# EAGLE library part ESP32-PICO-MINI-02-N8R2 (library 2024-09-07_16-09-34_Library)
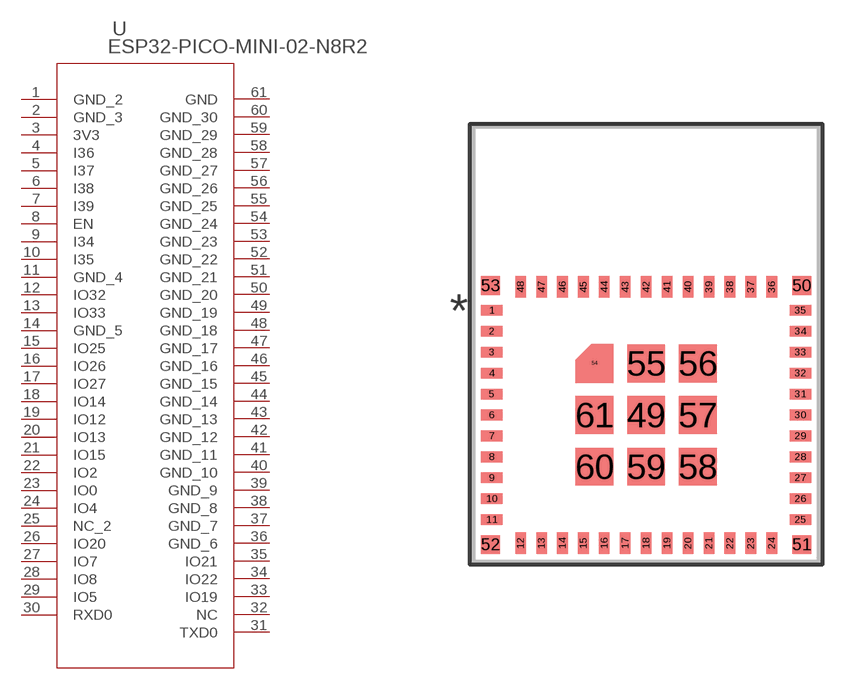
[diagram p0: symbol with the pads of ESP32-PICO-MINI-02_EXP; footprint ESP32-PICO-MINI-02_EXP]

Designator prefix U

## ESP32-PICO-MINI-02-N8R2ESP32-PICO-MINI-02_EXP (Copyright: Copyright (C) 2024 Ultra Librarian. All rights reserved.; Manufacturer_Part_Number: ESP32-PICO-MINI-02-N8R2; Mfr_Name: Espressif Systems)  [ESP32-PICO-MINI-02_EXP]
1  GND_2  pas
2  GND_3  pas
3  3V3  pwr
4  I36  in
5  I37  in
6  I38  in
7  I39  in
8  EN  in
9  I34  in
10  I35  in
11  GND_4  pas
12  IO32
13  IO33
14  GND_5  pas
15  IO25
16  IO26
17  IO27
18  IO14
19  IO12
20  IO13
21  IO15
22  IO2
23  IO0
24  IO4
25  NC_2  nc
26  IO20
27  IO7
28  IO8
29  IO5
30  RXD0
31  TXD0
32  NC  nc
33  IO19
34  IO22
35  IO21
36  GND_6  pas
37  GND_7  pas
38  GND_8  pas
39  GND_9  pas
40  GND_10  pas
41  GND_11  pas
42  GND_12  pas
43  GND_13  pas
44  GND_14  pas
45  GND_15  pas
46  GND_16  pas
47  GND_17  pas
48  GND_18  pas
49  GND_19  pas
50  GND_20  pas
51  GND_21  pas
52  GND_22  pas
53  GND_23  pas
54  GND_24  pas
55  GND_25  pas
56  GND_26  pas
57  GND_27  pas
58  GND_28  pas
59  GND_29  pas
60  GND_30  pas
61  GND  pas

## Footprint ESP32-PICO-MINI-02_EXP (pad centres in mm)
smd 0.813 x 0.406: 1 -5.9,1.295; 2 -5.9,0.495; 3 -5.9,-0.305; 4 -5.9,-1.105; 5 -5.9,-1.905; 6 -5.9,-2.705; 7 -5.9,-3.505; 8 -5.9,-4.305; 9 -5.9,-5.105; 10 -5.9,-5.905; 11 -5.9,-6.705; 25 5.9,-6.705; 26 5.9,-5.905; 27 5.9,-5.105; 28 5.9,-4.305; 29 5.9,-3.505; 30 5.9,-2.705; 31 5.9,-1.905; 32 5.9,-1.105; 33 5.9,-0.305; 34 5.9,0.495; 35 5.9,1.295
smd 0.406 x 0.813: 12 -4.8,-7.605; 13 -4,-7.605; 14 -3.2,-7.605; 15 -2.4,-7.605; 16 -1.6,-7.605; 17 -0.8,-7.605; 18 0,-7.605; 19 0.8,-7.605; 20 1.6,-7.605; 21 2.4,-7.605; 22 3.2,-7.605; 23 4,-7.605; 24 4.8,-7.605; 36 4.8,2.195; 37 4,2.195; 38 3.2,2.195; 39 2.4,2.195; 40 1.6,2.195; 41 0.8,2.195; 42 0,2.195; 43 -0.8,2.195; 44 -1.6,2.195; 45 -2.4,2.195; 46 -3.2,2.195; 47 -4,2.195; 48 -4.8,2.195
smd 1.448 x 1.448: 49 0,-2.705; 55 0,-0.73; 56 1.975,-0.73; 57 1.975,-2.705; 58 1.975,-4.68; 59 0,-4.68; 60 -1.975,-4.68; 61 -1.975,-2.705
smd 0.711 x 0.711: 50 5.95,2.245; 51 5.95,-7.655; 52 -5.95,-7.655; 53 -5.95,2.245
smd 0.127 x 0.127: 54 -1.975,-0.73